# EAGLE library part ATMEGA328P (library IntegratedLib)
Microcontrolador ATMEGA328P (TQFP-32)
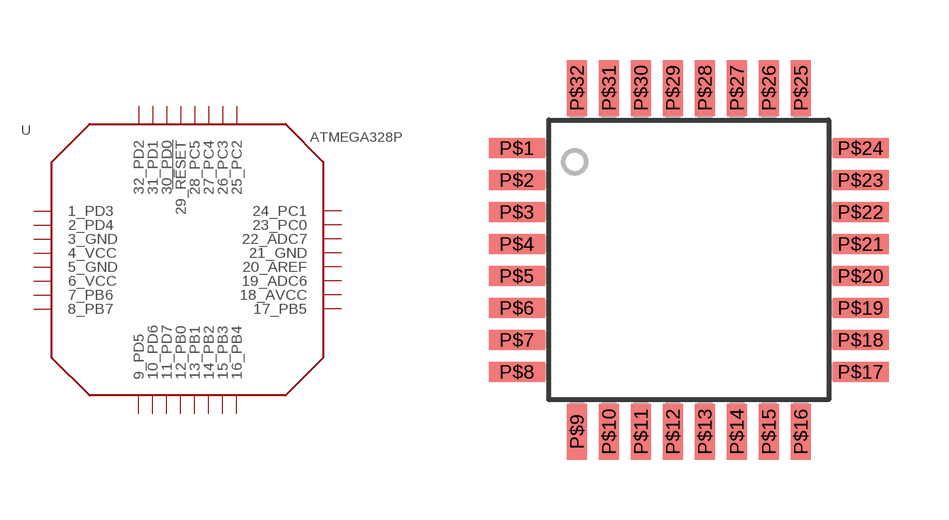
[diagram p30: symbol with the pads of TQFP-32; footprint TQFP-32]

Designator prefix U

## ATMEGA328P (FABRICANTE: MICROCHIP; PARTNUMBER: ATMEGA328PB-AUR; TIPO: CIRCUITO INTEGRADO)  [TQFP-32]
P$1  1_PD3
P$2  2_PD4
P$3  3_GND
P$4  4_VCC
P$5  5_GND
P$6  6_VCC
P$7  7_PB6
P$8  8_PB7
P$9  9_PD5
P$10  10_PD6
P$11  11_PD7
P$12  12_PB0
P$13  13_PB1
P$14  14_PB2
P$15  15_PB3
P$16  16_PB4
P$17  17_PB5
P$18  18_AVCC
P$19  19_ADC6
P$20  20_AREF
P$21  21_GND
P$22  22_ADC7
P$23  23_PC0
P$24  24_PC1
P$25  25_PC2
P$26  26_PC3
P$27  27_PC4
P$28  28_PC5
P$29  29_!RESET
P$30  30_PD0
P$31  31_PD1
P$32  32_PD2

## Footprint TQFP-32 (pad centres in mm)
smd 1.4 x 0.5: P$1 -4.3,2.8; P$2 -4.3,2; P$3 -4.3,1.2; P$4 -4.3,0.4; P$5 -4.3,-0.4; P$6 -4.3,-1.2; P$7 -4.3,-2; P$8 -4.3,-2.8; P$17 4.3,-2.8; P$18 4.3,-2; P$19 4.3,-1.2; P$20 4.3,-0.4; P$21 4.3,0.4; P$22 4.3,1.2; P$23 4.3,2; P$24 4.3,2.8
smd 0.5 x 1.4: P$9 -2.8,-4.3; P$10 -2,-4.3; P$11 -1.2,-4.3; P$12 -0.4,-4.3; P$13 0.4,-4.3; P$14 1.2,-4.3; P$15 2,-4.3; P$16 2.8,-4.3; P$25 2.8,4.3; P$26 2,4.3; P$27 1.2,4.3; P$28 0.4,4.3; P$29 -0.4,4.3; P$30 -1.2,4.3; P$31 -2,4.3; P$32 -2.8,4.3